# Altium integrated library ZMDI AS Interface.IntLib: 17 symbols
Pins are listed as number, name and electrical type; pins without a type are passive.

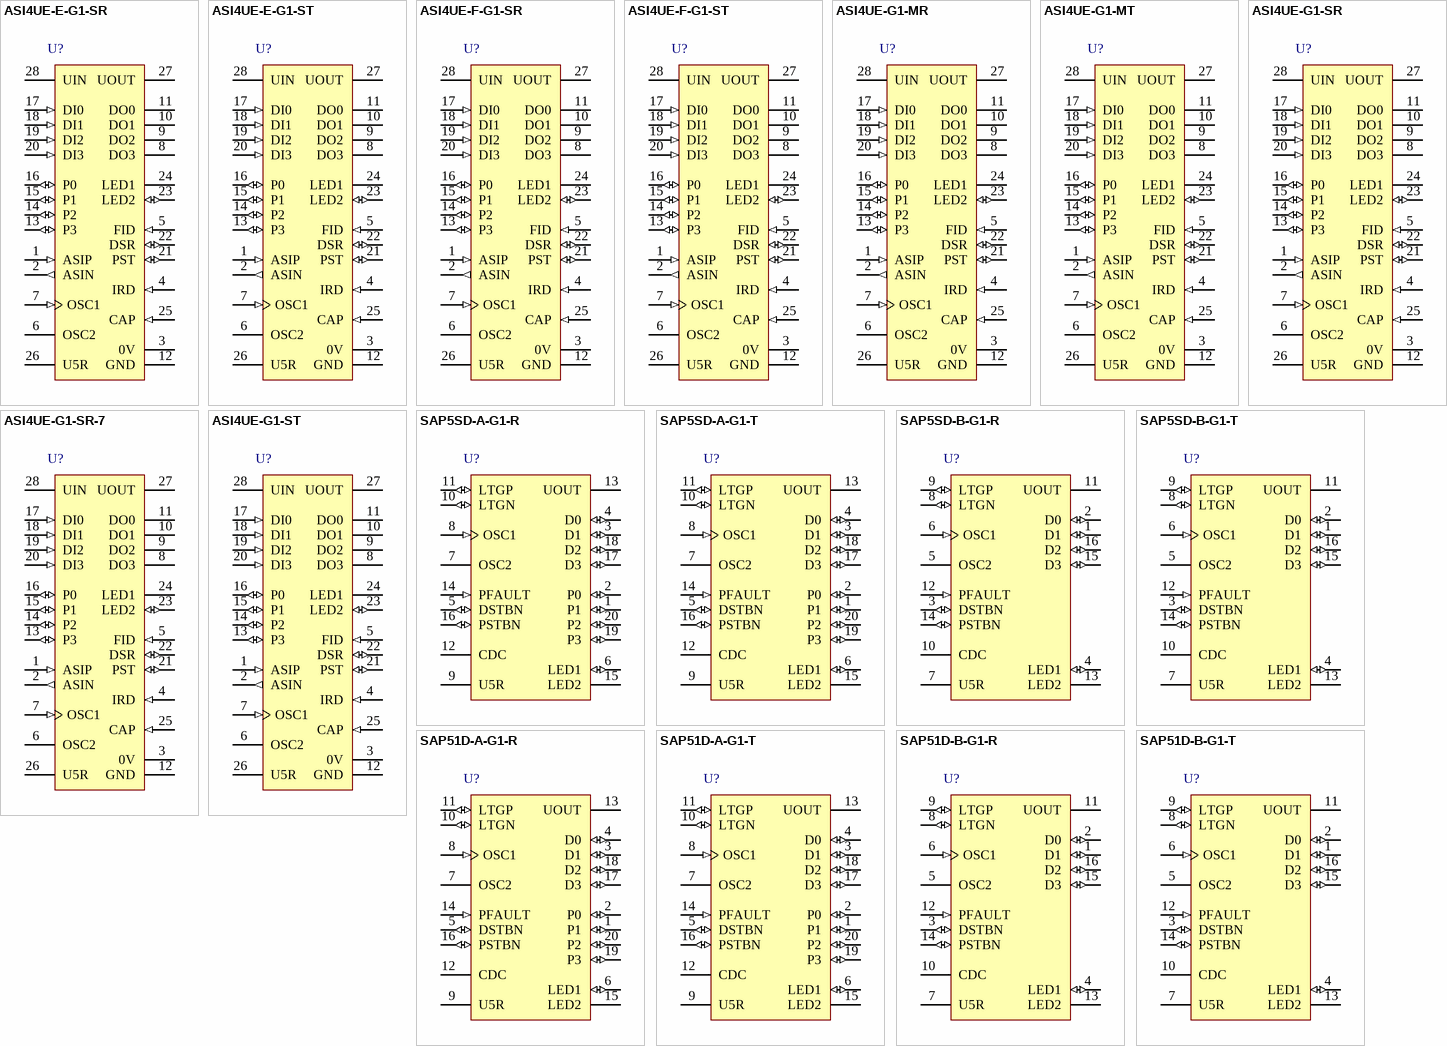
[diagram p0: symbols ASI4UE-E-G1-SR to SAP51D-B-G1-T]

## ASI4UE-E-G1-SR
designator U?
Spec. 3.0 Compliant Universal AS-I IC, 4 Inputs, 4 Outputs, -25 to 105 degC, 28-Pin SOP, Tape & Reel, RoHS; Manufacturer: ZMDI; PartNumber: ASI4UE-E-G1-SR; Number of Inputs: 4; DatasheetVersion: Rev. 2.2; PackageReference: SOP28; PackageDescription: 28-Pin Plastic Small Outline, 17.9 x 7.5 mm Body, 1.27 mm Pitch; Supplier 1: Mouser; Supplier Part Number 1: 964-ASI4UE-E-G1-SR; HyperLink: Standard; Number of Outputs: 4; Packing: Tape & Reel; RoHS: TRUE; Mounting Technology: Surface Mount; ComponentLink1Description: Manufacturer URL; ComponentLink1URL: http://www.zmdi.com/; ComponentLink2Description: Datasheet; ComponentLink2URL: http://www.zmdi.com/sites/default/files/ASI4U_Data_Sheet_Rev_2_2.pdf; ComponentLink3Description: Package Specification; ComponentLink3URL: http://www.zmdi.com/sites/default/files/ASI4U_Data_Sheet_Rev_2_2.pdf
footprint ZMDI-SOP28_N (28-Leads, Body 18.1x7.6mm, Pitch 1.27mm, IPC Medium Density)
footprint ZMDI-SOP28_L (28-Leads, Body 18.1x7.6mm, Pitch 1.27mm, IPC High Density)
footprint ZMDI-SOP28_M (28-Leads, Body 18.1x7.6mm, Pitch 1.27mm, IPC Low Density)
pins: 1 ASIP (in) "AS-i Transmitter/Receiver input, to be connected to ASI+ lead of AS-i cable, via reverse polarity protection diode", 2 ASIN (out) "AS-i Transmitter/Receiver output, to be connected to ASI- lead of AS-i cable", 3 0V (power) "IC Ground Common ground for all IC ports except ASIP/ASIN, To be connected to ASIN if no external coils are used", 4 IRD (in) "Addressing Channel input", 5 FID (in) "Periphery Fault input", 6 OSC2 "Crystal oscillator", 7 OSC1 (in) "Crystal oscillator / External clock input", 8 DO3 (hiz) "Data port output D3", 9 DO2 (hiz) "Data port output D2", 10 DO1 (hiz) "Data port output D1", 11 DO0 (hiz) "Data port output D0", 12 GND (power) "Digital I/O ground, to be connected with 0V", 13 P3 (io) "Parameter port P3", 14 P2 (io) "Parameter port P2 / Receive Strobe output in Master Mode", 15 P1 (io) "Parameter port P1 / Power Fail output in Master Mode", 16 P0 (io) "Parameter port P0 / Data Clock output in Master Mode", 17 DI0 (in) "Data port input D0", 18 DI1 (in) "Data port input D1", 19 DI2 (in) "Data port input D2", 20 DI3 (in) "Data port input D3", 21 PST (io) "Parameter Strobe output (input function used for IC test purposes only)", 22 DSR (io) "Data Strobe output / Reset input", 23 LED2 (io) "LED output "AS-i-Diagnosis" / Addressing channel output (input function used for IC test purposes only)", 24 LED1 (oc) "LED output "Enhanced Diagnosis", to be activated by LED2_Active bit in the Firmware region of the E2PROM", 25 CAP (in) "Filter control (Electronic Inductor)", 26 U5R (power) "Regulated internal/external 5V supply", 27 UOUT (power) "Decoupled Actuator/Sensor supply", 28 UIN (power) "Power supply input"

## ASI4UE-E-G1-ST
designator U?
Spec. 3.0 Compliant Universal AS-I IC, 4 Inputs, 4 Outputs, -25 to 105 degC, 28-Pin SOP, Tube, RoHS; Manufacturer: ZMDI; PartNumber: ASI4UE-E-G1-ST; Number of Inputs: 4; DatasheetVersion: Rev. 2.2; PackageReference: SOP28; PackageDescription: 28-Pin Plastic Small Outline, 17.9 x 7.5 mm Body, 1.27 mm Pitch; Supplier 1: Mouser; Supplier Part Number 1: 964-ASI4UE-E-G1-ST; HyperLink: Standard; Number of Outputs: 4; Packing: Tube; RoHS: TRUE; Mounting Technology: Surface Mount; ComponentLink1Description: Manufacturer URL; ComponentLink1URL: http://www.zmdi.com/; ComponentLink2Description: Datasheet; ComponentLink2URL: http://www.zmdi.com/sites/default/files/ASI4U_Data_Sheet_Rev_2_2.pdf; ComponentLink3Description: Package Specification; ComponentLink3URL: http://www.zmdi.com/sites/default/files/ASI4U_Data_Sheet_Rev_2_2.pdf
footprint ZMDI-SOP28_N (28-Leads, Body 18.1x7.6mm, Pitch 1.27mm, IPC Medium Density)
footprint ZMDI-SOP28_L (28-Leads, Body 18.1x7.6mm, Pitch 1.27mm, IPC High Density)
footprint ZMDI-SOP28_M (28-Leads, Body 18.1x7.6mm, Pitch 1.27mm, IPC Low Density)
pins: 1 ASIP (in) "AS-i Transmitter/Receiver input, to be connected to ASI+ lead of AS-i cable, via reverse polarity protection diode", 2 ASIN (out) "AS-i Transmitter/Receiver output, to be connected to ASI- lead of AS-i cable", 3 0V (power) "IC Ground Common ground for all IC ports except ASIP/ASIN, To be connected to ASIN if no external coils are used", 4 IRD (in) "Addressing Channel input", 5 FID (in) "Periphery Fault input", 6 OSC2 "Crystal oscillator", 7 OSC1 (in) "Crystal oscillator / External clock input", 8 DO3 (hiz) "Data port output D3", 9 DO2 (hiz) "Data port output D2", 10 DO1 (hiz) "Data port output D1", 11 DO0 (hiz) "Data port output D0", 12 GND (power) "Digital I/O ground, to be connected with 0V", 13 P3 (io) "Parameter port P3", 14 P2 (io) "Parameter port P2 / Receive Strobe output in Master Mode", 15 P1 (io) "Parameter port P1 / Power Fail output in Master Mode", 16 P0 (io) "Parameter port P0 / Data Clock output in Master Mode", 17 DI0 (in) "Data port input D0", 18 DI1 (in) "Data port input D1", 19 DI2 (in) "Data port input D2", 20 DI3 (in) "Data port input D3", 21 PST (io) "Parameter Strobe output (input function used for IC test purposes only)", 22 DSR (io) "Data Strobe output / Reset input", 23 LED2 (io) "LED output "AS-i-Diagnosis" / Addressing channel output (input function used for IC test purposes only)", 24 LED1 (oc) "LED output "Enhanced Diagnosis", to be activated by LED2_Active bit in the Firmware region of the E2PROM", 25 CAP (in) "Filter control (Electronic Inductor)", 26 U5R (power) "Regulated internal/external 5V supply", 27 UOUT (power) "Decoupled Actuator/Sensor supply", 28 UIN (power) "Power supply input"

## ASI4UE-F-G1-SR
designator U?
Spec. 3.0 Compliant Universal AS-I IC, 4 Inputs, 4 Outputs, -40 to 85 degC, 28-Pin SSOP, Tape & Reel, RoHS; Manufacturer: ZMDI; PartNumber: ASI4UE-F-G1-SR; Number of Inputs: 4; DatasheetVersion: Rev. 2.2; PackageReference: SSOP28; PackageDescription: 28-Pin Shrink Small Outline Package, 10.2 x 5.3 mm Body, 0.65 mm Pitch; Supplier 1: Mouser; Supplier Part Number 1: 964-ASI4UE-F-G1-SR; HyperLink: Standard; Number of Outputs: 4; Packing: Tape & Reel; RoHS: TRUE; Mounting Technology: Surface Mount; ComponentLink1Description: Manufacturer URL; ComponentLink1URL: http://www.zmdi.com/; ComponentLink2Description: Datasheet; ComponentLink2URL: http://www.zmdi.com/sites/default/files/ASI4U_Data_Sheet_Rev_2_2.pdf; ComponentLink3Description: Package Specification; ComponentLink3URL: http://www.zmdi.com/sites/default/files/ASI4U_Data_Sheet_Rev_2_2.pdf
footprint ZMDI-SSOP28_N (SOP, 28-Leads, Body 10.3x5.4mm, Pitch 0.65mm, IPC Medium Density)
footprint ZMDI-SSOP28_L (SOP, 28-Leads, Body 10.3x5.4mm, Pitch 0.65mm, IPC High Density)
footprint ZMDI-SSOP28_M (SOP, 28-Leads, Body 10.3x5.4mm, Pitch 0.65mm, IPC Low Density)
pins: 1 ASIP (in) "AS-i Transmitter/Receiver input, to be connected to ASI+ lead of AS-i cable, via reverse polarity protection diode", 2 ASIN (out) "AS-i Transmitter/Receiver output, to be connected to ASI- lead of AS-i cable", 3 0V (power) "IC Ground Common ground for all IC ports except ASIP/ASIN, To be connected to ASIN if no external coils are used", 4 IRD (in) "Addressing Channel input", 5 FID (in) "Periphery Fault input", 6 OSC2 "Crystal oscillator", 7 OSC1 (in) "Crystal oscillator / External clock input", 8 DO3 (hiz) "Data port output D3", 9 DO2 (hiz) "Data port output D2", 10 DO1 (hiz) "Data port output D1", 11 DO0 (hiz) "Data port output D0", 12 GND (power) "Digital I/O ground, to be connected with 0V", 13 P3 (io) "Parameter port P3", 14 P2 (io) "Parameter port P2 / Receive Strobe output in Master Mode", 15 P1 (io) "Parameter port P1 / Power Fail output in Master Mode", 16 P0 (io) "Parameter port P0 / Data Clock output in Master Mode", 17 DI0 (in) "Data port input D0", 18 DI1 (in) "Data port input D1", 19 DI2 (in) "Data port input D2", 20 DI3 (in) "Data port input D3", 21 PST (io) "Parameter Strobe output (input function used for IC test purposes only)", 22 DSR (io) "Data Strobe output / Reset input", 23 LED2 (io) "LED output "AS-i-Diagnosis" / Addressing channel output (input function used for IC test purposes only)", 24 LED1 (oc) "LED output "Enhanced Diagnosis", to be activated by LED2_Active bit in the Firmware region of the E2PROM", 25 CAP (in) "Filter control (Electronic Inductor)", 26 U5R (power) "Regulated internal/external 5V supply", 27 UOUT (power) "Decoupled Actuator/Sensor supply", 28 UIN (power) "Power supply input"

## ASI4UE-F-G1-ST
designator U?
Spec. 3.0 Compliant Universal AS-I IC, 4 Inputs, 4 Outputs, -40 to 85 degC, 28-Pin SSOP, Tube, RoHS; Manufacturer: ZMDI; PartNumber: ASI4UE-F-G1-ST; Number of Inputs: 4; DatasheetVersion: Rev. 2.2; PackageReference: SSOP28; PackageDescription: 28-Pin Shrink Small Outline Package, 10.2 x 5.3 mm Body, 0.65 mm Pitch; Supplier 1: Mouser; Supplier Part Number 1: 964-ASI4UE-F-G1-ST; HyperLink: Standard; Number of Outputs: 4; Packing: Tube; RoHS: TRUE; Mounting Technology: Surface Mount; ComponentLink1Description: Manufacturer URL; ComponentLink1URL: http://www.zmdi.com/; ComponentLink2Description: Datasheet; ComponentLink2URL: http://www.zmdi.com/sites/default/files/ASI4U_Data_Sheet_Rev_2_2.pdf; ComponentLink3Description: Package Specification; ComponentLink3URL: http://www.zmdi.com/sites/default/files/ASI4U_Data_Sheet_Rev_2_2.pdf
footprint ZMDI-SSOP28_N (SOP, 28-Leads, Body 10.3x5.4mm, Pitch 0.65mm, IPC Medium Density)
footprint ZMDI-SSOP28_L (SOP, 28-Leads, Body 10.3x5.4mm, Pitch 0.65mm, IPC High Density)
footprint ZMDI-SSOP28_M (SOP, 28-Leads, Body 10.3x5.4mm, Pitch 0.65mm, IPC Low Density)
pins: 1 ASIP (in) "AS-i Transmitter/Receiver input, to be connected to ASI+ lead of AS-i cable, via reverse polarity protection diode", 2 ASIN (out) "AS-i Transmitter/Receiver output, to be connected to ASI- lead of AS-i cable", 3 0V (power) "IC Ground Common ground for all IC ports except ASIP/ASIN, To be connected to ASIN if no external coils are used", 4 IRD (in) "Addressing Channel input", 5 FID (in) "Periphery Fault input", 6 OSC2 "Crystal oscillator", 7 OSC1 (in) "Crystal oscillator / External clock input", 8 DO3 (hiz) "Data port output D3", 9 DO2 (hiz) "Data port output D2", 10 DO1 (hiz) "Data port output D1", 11 DO0 (hiz) "Data port output D0", 12 GND (power) "Digital I/O ground, to be connected with 0V", 13 P3 (io) "Parameter port P3", 14 P2 (io) "Parameter port P2 / Receive Strobe output in Master Mode", 15 P1 (io) "Parameter port P1 / Power Fail output in Master Mode", 16 P0 (io) "Parameter port P0 / Data Clock output in Master Mode", 17 DI0 (in) "Data port input D0", 18 DI1 (in) "Data port input D1", 19 DI2 (in) "Data port input D2", 20 DI3 (in) "Data port input D3", 21 PST (io) "Parameter Strobe output (input function used for IC test purposes only)", 22 DSR (io) "Data Strobe output / Reset input", 23 LED2 (io) "LED output "AS-i-Diagnosis" / Addressing channel output (input function used for IC test purposes only)", 24 LED1 (oc) "LED output "Enhanced Diagnosis", to be activated by LED2_Active bit in the Firmware region of the E2PROM", 25 CAP (in) "Filter control (Electronic Inductor)", 26 U5R (power) "Regulated internal/external 5V supply", 27 UOUT (power) "Decoupled Actuator/Sensor supply", 28 UIN (power) "Power supply input"

## ASI4UE-G1-MR
designator U?
Spec. 3.0 Compliant Universal AS-I IC, 4 Inputs, 4 Outputs, -25 to 85 degC, 28-Pin SSOP, Tape & Reel, RoHS; Manufacturer: ZMDI; PartNumber: ASI4UE-G1-MR; Number of Inputs: 4; DatasheetVersion: Rev. 2.2; PackageReference: SSOP28; PackageDescription: 28-Pin Shrink Small Outline Package, 10.2 x 5.3 mm Body, 0.65 mm Pitch; Supplier 1: Mouser; Supplier Part Number 1: 964-ASI4UE-G1-MR; HyperLink: Master; Number of Outputs: 4; Packing: Tape & Reel; RoHS: TRUE; Mounting Technology: Surface Mount; ComponentLink1Description: Manufacturer URL; ComponentLink1URL: http://www.zmdi.com/; ComponentLink2Description: Datasheet; ComponentLink2URL: http://www.zmdi.com/sites/default/files/ASI4U_Data_Sheet_Rev_2_2.pdf; ComponentLink3Description: Package Specification; ComponentLink3URL: http://www.zmdi.com/sites/default/files/ASI4U_Data_Sheet_Rev_2_2.pdf
footprint ZMDI-SSOP28_N (SOP, 28-Leads, Body 10.3x5.4mm, Pitch 0.65mm, IPC Medium Density)
footprint ZMDI-SSOP28_L (SOP, 28-Leads, Body 10.3x5.4mm, Pitch 0.65mm, IPC High Density)
footprint ZMDI-SSOP28_M (SOP, 28-Leads, Body 10.3x5.4mm, Pitch 0.65mm, IPC Low Density)
pins: 1 ASIP (in) "AS-i Transmitter/Receiver input, to be connected to ASI+ lead of AS-i cable, via reverse polarity protection diode", 2 ASIN (out) "AS-i Transmitter/Receiver output, to be connected to ASI- lead of AS-i cable", 3 0V (power) "IC Ground Common ground for all IC ports except ASIP/ASIN, To be connected to ASIN if no external coils are used", 4 IRD (in) "Addressing Channel input", 5 FID (in) "Periphery Fault input", 6 OSC2 "Crystal oscillator", 7 OSC1 (in) "Crystal oscillator / External clock input", 8 DO3 (hiz) "Data port output D3", 9 DO2 (hiz) "Data port output D2", 10 DO1 (hiz) "Data port output D1", 11 DO0 (hiz) "Data port output D0", 12 GND (power) "Digital I/O ground, to be connected with 0V", 13 P3 (io) "Parameter port P3", 14 P2 (io) "Parameter port P2 / Receive Strobe output in Master Mode", 15 P1 (io) "Parameter port P1 / Power Fail output in Master Mode", 16 P0 (io) "Parameter port P0 / Data Clock output in Master Mode", 17 DI0 (in) "Data port input D0", 18 DI1 (in) "Data port input D1", 19 DI2 (in) "Data port input D2", 20 DI3 (in) "Data port input D3", 21 PST (io) "Parameter Strobe output (input function used for IC test purposes only)", 22 DSR (io) "Data Strobe output / Reset input", 23 LED2 (io) "LED output "AS-i-Diagnosis" / Addressing channel output (input function used for IC test purposes only)", 24 LED1 (oc) "LED output "Enhanced Diagnosis", to be activated by LED2_Active bit in the Firmware region of the E2PROM", 25 CAP (in) "Filter control (Electronic Inductor)", 26 U5R (power) "Regulated internal/external 5V supply", 27 UOUT (power) "Decoupled Actuator/Sensor supply", 28 UIN (power) "Power supply input"

## ASI4UE-G1-MT
designator U?
Spec. 3.0 Compliant Universal AS-I IC, 4 Inputs, 4 Outputs, -25 to 85 degC, 28-Pin SSOP, Tube, RoHS; Manufacturer: ZMDI; PartNumber: ASI4UE-G1-MT; Number of Inputs: 4; DatasheetVersion: Rev. 2.2; PackageReference: SSOP28; PackageDescription: 28-Pin Shrink Small Outline Package, 10.2 x 5.3 mm Body, 0.65 mm Pitch; Supplier 1: Mouser; Supplier Part Number 1: 964-ASI4UE-G1-MT; HyperLink: Master; Number of Outputs: 4; Packing: Tube; RoHS: TRUE; Mounting Technology: Surface Mount; ComponentLink1Description: Manufacturer URL; ComponentLink1URL: http://www.zmdi.com/; ComponentLink2Description: Datasheet; ComponentLink2URL: http://www.zmdi.com/sites/default/files/ASI4U_Data_Sheet_Rev_2_2.pdf; ComponentLink3Description: Package Specification; ComponentLink3URL: http://www.zmdi.com/sites/default/files/ASI4U_Data_Sheet_Rev_2_2.pdf
footprint ZMDI-SSOP28_N (SOP, 28-Leads, Body 10.3x5.4mm, Pitch 0.65mm, IPC Medium Density)
footprint ZMDI-SSOP28_L (SOP, 28-Leads, Body 10.3x5.4mm, Pitch 0.65mm, IPC High Density)
footprint ZMDI-SSOP28_M (SOP, 28-Leads, Body 10.3x5.4mm, Pitch 0.65mm, IPC Low Density)
pins: 1 ASIP (in) "AS-i Transmitter/Receiver input, to be connected to ASI+ lead of AS-i cable, via reverse polarity protection diode", 2 ASIN (out) "AS-i Transmitter/Receiver output, to be connected to ASI- lead of AS-i cable", 3 0V (power) "IC Ground Common ground for all IC ports except ASIP/ASIN, To be connected to ASIN if no external coils are used", 4 IRD (in) "Addressing Channel input", 5 FID (in) "Periphery Fault input", 6 OSC2 "Crystal oscillator", 7 OSC1 (in) "Crystal oscillator / External clock input", 8 DO3 (hiz) "Data port output D3", 9 DO2 (hiz) "Data port output D2", 10 DO1 (hiz) "Data port output D1", 11 DO0 (hiz) "Data port output D0", 12 GND (power) "Digital I/O ground, to be connected with 0V", 13 P3 (io) "Parameter port P3", 14 P2 (io) "Parameter port P2 / Receive Strobe output in Master Mode", 15 P1 (io) "Parameter port P1 / Power Fail output in Master Mode", 16 P0 (io) "Parameter port P0 / Data Clock output in Master Mode", 17 DI0 (in) "Data port input D0", 18 DI1 (in) "Data port input D1", 19 DI2 (in) "Data port input D2", 20 DI3 (in) "Data port input D3", 21 PST (io) "Parameter Strobe output (input function used for IC test purposes only)", 22 DSR (io) "Data Strobe output / Reset input", 23 LED2 (io) "LED output "AS-i-Diagnosis" / Addressing channel output (input function used for IC test purposes only)", 24 LED1 (oc) "LED output "Enhanced Diagnosis", to be activated by LED2_Active bit in the Firmware region of the E2PROM", 25 CAP (in) "Filter control (Electronic Inductor)", 26 U5R (power) "Regulated internal/external 5V supply", 27 UOUT (power) "Decoupled Actuator/Sensor supply", 28 UIN (power) "Power supply input"

## ASI4UE-G1-SR
designator U?
Spec. 3.0 Compliant Universal AS-I IC, 4 Inputs, 4 Outputs, -25 to 85 degC, 28-Pin SSOP, Tape & Reel, RoHS; Manufacturer: ZMDI; PartNumber: ASI4UE-G1-SR; Number of Inputs: 4; DatasheetVersion: Rev. 2.2; PackageReference: SSOP28; PackageDescription: 28-Pin Shrink Small Outline Package, 10.2 x 5.3 mm Body, 0.65 mm Pitch; Supplier 1: Mouser; Supplier Part Number 1: 964-ASI4UE-G1-SR; HyperLink: Standard; Number of Outputs: 4; Packing: Tape & Reel; RoHS: TRUE; Mounting Technology: Surface Mount; ComponentLink1Description: Manufacturer URL; ComponentLink1URL: http://www.zmdi.com/; ComponentLink2Description: Datasheet; ComponentLink2URL: http://www.zmdi.com/sites/default/files/ASI4U_Data_Sheet_Rev_2_2.pdf; ComponentLink3Description: Package Specification; ComponentLink3URL: http://www.zmdi.com/sites/default/files/ASI4U_Data_Sheet_Rev_2_2.pdf
footprint ZMDI-SSOP28_N (SOP, 28-Leads, Body 10.3x5.4mm, Pitch 0.65mm, IPC Medium Density)
footprint ZMDI-SSOP28_L (SOP, 28-Leads, Body 10.3x5.4mm, Pitch 0.65mm, IPC High Density)
footprint ZMDI-SSOP28_M (SOP, 28-Leads, Body 10.3x5.4mm, Pitch 0.65mm, IPC Low Density)
pins: 1 ASIP (in) "AS-i Transmitter/Receiver input, to be connected to ASI+ lead of AS-i cable, via reverse polarity protection diode", 2 ASIN (out) "AS-i Transmitter/Receiver output, to be connected to ASI- lead of AS-i cable", 3 0V (power) "IC Ground Common ground for all IC ports except ASIP/ASIN, To be connected to ASIN if no external coils are used", 4 IRD (in) "Addressing Channel input", 5 FID (in) "Periphery Fault input", 6 OSC2 "Crystal oscillator", 7 OSC1 (in) "Crystal oscillator / External clock input", 8 DO3 (hiz) "Data port output D3", 9 DO2 (hiz) "Data port output D2", 10 DO1 (hiz) "Data port output D1", 11 DO0 (hiz) "Data port output D0", 12 GND (power) "Digital I/O ground, to be connected with 0V", 13 P3 (io) "Parameter port P3", 14 P2 (io) "Parameter port P2 / Receive Strobe output in Master Mode", 15 P1 (io) "Parameter port P1 / Power Fail output in Master Mode", 16 P0 (io) "Parameter port P0 / Data Clock output in Master Mode", 17 DI0 (in) "Data port input D0", 18 DI1 (in) "Data port input D1", 19 DI2 (in) "Data port input D2", 20 DI3 (in) "Data port input D3", 21 PST (io) "Parameter Strobe output (input function used for IC test purposes only)", 22 DSR (io) "Data Strobe output / Reset input", 23 LED2 (io) "LED output "AS-i-Diagnosis" / Addressing channel output (input function used for IC test purposes only)", 24 LED1 (oc) "LED output "Enhanced Diagnosis", to be activated by LED2_Active bit in the Firmware region of the E2PROM", 25 CAP (in) "Filter control (Electronic Inductor)", 26 U5R (power) "Regulated internal/external 5V supply", 27 UOUT (power) "Decoupled Actuator/Sensor supply", 28 UIN (power) "Power supply input"

## ASI4UE-G1-SR-7
designator U?
Spec. 3.0 Compliant Universal AS-I IC, 4 Inputs, 4 Outputs, -25 to 85 degC, 28-Pin SSOP, Tape & Reel, RoHS; Manufacturer: ZMDI; PartNumber: ASI4UE-G1-SR-7; Number of Inputs: 4; DatasheetVersion: Rev. 2.2; PackageReference: SSOP28; PackageDescription: 28-Pin Shrink Small Outline Package, 10.2 x 5.3 mm Body, 0.65 mm Pitch; Supplier 1: Mouser; Supplier Part Number 1: 964-ASI4UE-G1-SR-7; HyperLink: Standard; Number of Outputs: 4; Packing: Tape & Reel; RoHS: TRUE; Mounting Technology: Surface Mount; ComponentLink1Description: Manufacturer URL; ComponentLink1URL: http://www.zmdi.com/; ComponentLink2Description: Datasheet; ComponentLink2URL: http://www.zmdi.com/sites/default/files/ASI4U_Data_Sheet_Rev_2_2.pdf; ComponentLink3Description: Package Specification; ComponentLink3URL: http://www.zmdi.com/sites/default/files/ASI4U_Data_Sheet_Rev_2_2.pdf
footprint ZMDI-SSOP28_N (SOP, 28-Leads, Body 10.3x5.4mm, Pitch 0.65mm, IPC Medium Density)
footprint ZMDI-SSOP28_L (SOP, 28-Leads, Body 10.3x5.4mm, Pitch 0.65mm, IPC High Density)
footprint ZMDI-SSOP28_M (SOP, 28-Leads, Body 10.3x5.4mm, Pitch 0.65mm, IPC Low Density)
pins: 1 ASIP (in) "AS-i Transmitter/Receiver input, to be connected to ASI+ lead of AS-i cable, via reverse polarity protection diode", 2 ASIN (out) "AS-i Transmitter/Receiver output, to be connected to ASI- lead of AS-i cable", 3 0V (power) "IC Ground Common ground for all IC ports except ASIP/ASIN, To be connected to ASIN if no external coils are used", 4 IRD (in) "Addressing Channel input", 5 FID (in) "Periphery Fault input", 6 OSC2 "Crystal oscillator", 7 OSC1 (in) "Crystal oscillator / External clock input", 8 DO3 (hiz) "Data port output D3", 9 DO2 (hiz) "Data port output D2", 10 DO1 (hiz) "Data port output D1", 11 DO0 (hiz) "Data port output D0", 12 GND (power) "Digital I/O ground, to be connected with 0V", 13 P3 (io) "Parameter port P3", 14 P2 (io) "Parameter port P2 / Receive Strobe output in Master Mode", 15 P1 (io) "Parameter port P1 / Power Fail output in Master Mode", 16 P0 (io) "Parameter port P0 / Data Clock output in Master Mode", 17 DI0 (in) "Data port input D0", 18 DI1 (in) "Data port input D1", 19 DI2 (in) "Data port input D2", 20 DI3 (in) "Data port input D3", 21 PST (io) "Parameter Strobe output (input function used for IC test purposes only)", 22 DSR (io) "Data Strobe output / Reset input", 23 LED2 (io) "LED output "AS-i-Diagnosis" / Addressing channel output (input function used for IC test purposes only)", 24 LED1 (oc) "LED output "Enhanced Diagnosis", to be activated by LED2_Active bit in the Firmware region of the E2PROM", 25 CAP (in) "Filter control (Electronic Inductor)", 26 U5R (power) "Regulated internal/external 5V supply", 27 UOUT (power) "Decoupled Actuator/Sensor supply", 28 UIN (power) "Power supply input"

## ASI4UE-G1-ST
designator U?
Spec. 3.0 Compliant Universal AS-I IC, 4 Inputs, 4 Outputs, -25 to 85 degC, 28-Pin SSOP, Tube, RoHS; Manufacturer: ZMDI; PartNumber: ASI4UE-G1-ST; Number of Inputs: 4; DatasheetVersion: Rev. 2.2; PackageReference: SSOP28; PackageDescription: 28-Pin Shrink Small Outline Package, 10.2 x 5.3 mm Body, 0.65 mm Pitch; Supplier 1: Mouser; Supplier Part Number 1: 964-ASI4UE-G1-ST; HyperLink: Standard; Number of Outputs: 4; Packing: Tube; RoHS: TRUE; Mounting Technology: Surface Mount; ComponentLink1Description: Manufacturer URL; ComponentLink1URL: http://www.zmdi.com/; ComponentLink2Description: Datasheet; ComponentLink2URL: http://www.zmdi.com/sites/default/files/ASI4U_Data_Sheet_Rev_2_2.pdf; ComponentLink3Description: Package Specification; ComponentLink3URL: http://www.zmdi.com/sites/default/files/ASI4U_Data_Sheet_Rev_2_2.pdf
footprint ZMDI-SSOP28_N (SOP, 28-Leads, Body 10.3x5.4mm, Pitch 0.65mm, IPC Medium Density)
footprint ZMDI-SSOP28_L (SOP, 28-Leads, Body 10.3x5.4mm, Pitch 0.65mm, IPC High Density)
footprint ZMDI-SSOP28_M (SOP, 28-Leads, Body 10.3x5.4mm, Pitch 0.65mm, IPC Low Density)
pins: 1 ASIP (in) "AS-i Transmitter/Receiver input, to be connected to ASI+ lead of AS-i cable, via reverse polarity protection diode", 2 ASIN (out) "AS-i Transmitter/Receiver output, to be connected to ASI- lead of AS-i cable", 3 0V (power) "IC Ground Common ground for all IC ports except ASIP/ASIN, To be connected to ASIN if no external coils are used", 4 IRD (in) "Addressing Channel input", 5 FID (in) "Periphery Fault input", 6 OSC2 "Crystal oscillator", 7 OSC1 (in) "Crystal oscillator / External clock input", 8 DO3 (hiz) "Data port output D3", 9 DO2 (hiz) "Data port output D2", 10 DO1 (hiz) "Data port output D1", 11 DO0 (hiz) "Data port output D0", 12 GND (power) "Digital I/O ground, to be connected with 0V", 13 P3 (io) "Parameter port P3", 14 P2 (io) "Parameter port P2 / Receive Strobe output in Master Mode", 15 P1 (io) "Parameter port P1 / Power Fail output in Master Mode", 16 P0 (io) "Parameter port P0 / Data Clock output in Master Mode", 17 DI0 (in) "Data port input D0", 18 DI1 (in) "Data port input D1", 19 DI2 (in) "Data port input D2", 20 DI3 (in) "Data port input D3", 21 PST (io) "Parameter Strobe output (input function used for IC test purposes only)", 22 DSR (io) "Data Strobe output / Reset input", 23 LED2 (io) "LED output "AS-i-Diagnosis" / Addressing channel output (input function used for IC test purposes only)", 24 LED1 (oc) "LED output "Enhanced Diagnosis", to be activated by LED2_Active bit in the Firmware region of the E2PROM", 25 CAP (in) "Filter control (Electronic Inductor)", 26 U5R (power) "Regulated internal/external 5V supply", 27 UOUT (power) "Decoupled Actuator/Sensor supply", 28 UIN (power) "Power supply input"

## SAP5SD-A-G1-R
designator U?
Universal Actuator-Sensor Interface IC, 4 Inputs, 4 Outputs, -25 to 85 degC, 20-Pin SOP, Tape & Reel, RoHS; Manufacturer: ZMDI; PartNumber: SAP5SD-A-G1-R; Number of Inputs: 4; DatasheetVersion: Rev. 3.1; PackageReference: SOP20; PackageDescription: 20-Pin Plastic Small Outline, 12.83 x 7.52 mm Body, 1.27 mm Pitch; Supplier 1: Mouser; Supplier Part Number 1: 964-SAP5SD-A-G1-R; Number of Outputs: 4; Packing: Tape & Reel; RoHS: TRUE; Mounting Technology: Surface Mount; ComponentLink1Description: Manufacturer URL; ComponentLink1URL: http://www.zmdi.com/; ComponentLink2Description: Datasheet; ComponentLink2URL: http://www.zmdi.com/sites/default/files/SAP5_Data_Sheet_Rev_3_1.pdf; ComponentLink3Description: Package Specification; ComponentLink3URL: http://www.zmdi.com/sites/default/files/SAP5_Data_Sheet_Rev_3_1.pdf
footprint ZMDI-SOP20_N (SOP, 20-Leads, Body 13x7.6mm, Pitch 1.27mm, IPC Medium Density)
footprint ZMDI-SOP20_L (SOP, 20-Leads, Body 13x7.6mm, Pitch 1.27mm, IPC High Density)
footprint ZMDI-SOP20_M (SOP, 20-Leads, Body 13x7.6mm, Pitch 1.27mm, IPC Low Density)
pins: 1 P1 (io) "Parameter port P1 / Datainput port 1 at IO-config = 7", 2 P0 (io) "Parameter port P0 / Datainput port 0 at IO-config = 7", 3 D1 (io) "Data port D1", 4 D0 (io) "Data port D0", 5 DSTBN (io) "Data Strobe output / Reset input", 6 LED1 (io) "LED 1 Status Indication", 7 OSC2 "Crystal oscillator", 8 OSC1 (in) "Crystal oscillator / External clock input", 9 U5R (power) "Regulated 5V power supply", 10 LTGN (io) "AS-i Transmitter/Receiver output, to be connected toAS-i-", 11 LTGP (io) "AS-i Transmitter/Receiver input, to be connected to AS-i+ via reverse polarity protection diode", 12 CDC "external buffer capacitor", 13 UOUT (power) "decoupled actuator/sensorpower supply", 14 PFAULT (in) "Periphery Fault input (LOW =Periphery Fault)", 15 LED2 (oc) "LED 2 status indication", 16 PSTBN (io) "Parameter Strobe output", 17 D3 (io) "Data port D3", 18 D2 (io) "Data port D2", 19 P3 (io) "Parameter port P3 / Datainput port 3 at IO-config = 7", 20 P2 (io) "Parameter port P2 / Datainput port 2 at IO-config = 7"

## SAP5SD-A-G1-T
designator U?
Universal Actuator-Sensor Interface IC, 4 Inputs, 4 Outputs, -25 to 85 degC, 20-Pin SOP, Tube, RoHS; Manufacturer: ZMDI; PartNumber: SAP5SD-A-G1-T; Number of Inputs: 4; DatasheetVersion: Rev. 3.1; PackageReference: SOP20; PackageDescription: 20-Pin Plastic Small Outline, 12.83 x 7.52 mm Body, 1.27 mm Pitch; Supplier 1: Mouser; Supplier Part Number 1: 964-SAP5SD-A-G1-T; Number of Outputs: 4; Packing: Tube; RoHS: TRUE; Mounting Technology: Surface Mount; ComponentLink1Description: Manufacturer URL; ComponentLink1URL: http://www.zmdi.com/; ComponentLink2Description: Datasheet; ComponentLink2URL: http://www.zmdi.com/sites/default/files/SAP5_Data_Sheet_Rev_3_1.pdf; ComponentLink3Description: Package Specification; ComponentLink3URL: http://www.zmdi.com/sites/default/files/SAP5_Data_Sheet_Rev_3_1.pdf
footprint ZMDI-SOP20_N (SOP, 20-Leads, Body 13x7.6mm, Pitch 1.27mm, IPC Medium Density)
footprint ZMDI-SOP20_L (SOP, 20-Leads, Body 13x7.6mm, Pitch 1.27mm, IPC High Density)
footprint ZMDI-SOP20_M (SOP, 20-Leads, Body 13x7.6mm, Pitch 1.27mm, IPC Low Density)
pins: 1 P1 (io) "Parameter port P1 / Datainput port 1 at IO-config = 7", 2 P0 (io) "Parameter port P0 / Datainput port 0 at IO-config = 7", 3 D1 (io) "Data port D1", 4 D0 (io) "Data port D0", 5 DSTBN (io) "Data Strobe output / Reset input", 6 LED1 (io) "LED 1 Status Indication", 7 OSC2 "Crystal oscillator", 8 OSC1 (in) "Crystal oscillator / External clock input", 9 U5R (power) "Regulated 5V power supply", 10 LTGN (io) "AS-i Transmitter/Receiver output, to be connected toAS-i-", 11 LTGP (io) "AS-i Transmitter/Receiver input, to be connected to AS-i+ via reverse polarity protection diode", 12 CDC "external buffer capacitor", 13 UOUT (power) "decoupled actuator/sensorpower supply", 14 PFAULT (in) "Periphery Fault input (LOW =Periphery Fault)", 15 LED2 (oc) "LED 2 status indication", 16 PSTBN (io) "Parameter Strobe output", 17 D3 (io) "Data port D3", 18 D2 (io) "Data port D2", 19 P3 (io) "Parameter port P3 / Datainput port 3 at IO-config = 7", 20 P2 (io) "Parameter port P2 / Datainput port 2 at IO-config = 7"

## SAP5SD-B-G1-R
designator U?
Universal Actuator-Sensor Interface IC, 4 Inputs, 4 Outputs, -25 to 85 degC, 16-Pin SOP, Tape & Reel, RoHS; Manufacturer: ZMDI; PartNumber: SAP5SD-B-G1-R; Number of Inputs: 4; DatasheetVersion: Rev. 3.1; PackageReference: SOP16; PackageDescription: 16-Pin Plastic Small Outline, 10.34 x 7.52 mm Body, 1.27 mm Pitch; Supplier 1: Mouser; Supplier Part Number 1: 964-SAP5SD-B-G1-R; Number of Outputs: 4; Packing: Tape & Reel; RoHS: TRUE; Mounting Technology: Surface Mount; ComponentLink1Description: Manufacturer URL; ComponentLink1URL: http://www.zmdi.com/; ComponentLink2Description: Datasheet; ComponentLink2URL: http://www.zmdi.com/sites/default/files/SAP5_Data_Sheet_Rev_3_1.pdf; ComponentLink3Description: Package Specification; ComponentLink3URL: http://www.zmdi.com/sites/default/files/SAP5_Data_Sheet_Rev_3_1.pdf
footprint ZMDI-SOP16_N (SOP, 16-Leads, Body 10.5x7.6mm, Pitch 1.27mm, IPC Medium Density)
footprint ZMDI-SOP16_L (SOP, 16-Leads, Body 10.5x7.6mm, Pitch 1.27mm, IPC High Density)
footprint ZMDI-SOP16_M (SOP, 16-Leads, Body 10.5x7.6mm, Pitch 1.27mm, IPC Low Density)
pins: 1 D1 (io) "Data port D1", 2 D0 (io) "Data port D0", 3 DSTBN (io) "Data Strobe output / Reset input", 4 LED1 (io) "LED 1 Status Indication", 5 OSC2 "Crystal oscillator", 6 OSC1 (in) "Crystal oscillator / Externalclock input", 7 U5R (power) "Regulated 5V power supply", 8 LTGN (io) "AS-i Transmitter/Receiveroutput, to be connected toAS-i-", 9 LTGP (io) "AS-i Transmitter/Receiver input, to be connected to AS-i+ via reverse polarityprotection diode", 10 CDC "external buffer capacitor", 11 UOUT (power) "decoupled actuator/sensorpower supply", 12 PFAULT (in) "Periphery Fault input (LOW =Periphery Fault)", 13 LED2 (oc) "LED 2 status indication", 14 PSTBN (io) "Parameter Strobe output", 15 D3 (io) "Data port D3", 16 D2 (io) "Data port D2"

## SAP5SD-B-G1-T
designator U?
Universal Actuator-Sensor Interface IC, 4 Inputs, 4 Outputs, -25 to 85 degC, 16-Pin SOP, Tube, RoHS; Manufacturer: ZMDI; PartNumber: SAP5SD-B-G1-T; Number of Inputs: 4; DatasheetVersion: Rev. 3.1; PackageReference: SOP16; PackageDescription: 16-Pin Plastic Small Outline, 10.34 x 7.52 mm Body, 1.27 mm Pitch; Supplier 1: Mouser; Supplier Part Number 1: 964-SAP5SD-B-G1-T; Number of Outputs: 4; Packing: Tube; RoHS: TRUE; Mounting Technology: Surface Mount; ComponentLink1Description: Manufacturer URL; ComponentLink1URL: http://www.zmdi.com/; ComponentLink2Description: Datasheet; ComponentLink2URL: http://www.zmdi.com/sites/default/files/SAP5_Data_Sheet_Rev_3_1.pdf; ComponentLink3Description: Package Specification; ComponentLink3URL: http://www.zmdi.com/sites/default/files/SAP5_Data_Sheet_Rev_3_1.pdf
footprint ZMDI-SOP16_N (SOP, 16-Leads, Body 10.5x7.6mm, Pitch 1.27mm, IPC Medium Density)
footprint ZMDI-SOP16_L (SOP, 16-Leads, Body 10.5x7.6mm, Pitch 1.27mm, IPC High Density)
footprint ZMDI-SOP16_M (SOP, 16-Leads, Body 10.5x7.6mm, Pitch 1.27mm, IPC Low Density)
pins: 1 D1 (io) "Data port D1", 2 D0 (io) "Data port D0", 3 DSTBN (io) "Data Strobe output / Reset input", 4 LED1 (io) "LED 1 Status Indication", 5 OSC2 "Crystal oscillator", 6 OSC1 (in) "Crystal oscillator / Externalclock input", 7 U5R (power) "Regulated 5V power supply", 8 LTGN (io) "AS-i Transmitter/Receiveroutput, to be connected toAS-i-", 9 LTGP (io) "AS-i Transmitter/Receiver input, to be connected to AS-i+ via reverse polarityprotection diode", 10 CDC "external buffer capacitor", 11 UOUT (power) "decoupled actuator/sensorpower supply", 12 PFAULT (in) "Periphery Fault input (LOW =Periphery Fault)", 13 LED2 (oc) "LED 2 status indication", 14 PSTBN (io) "Parameter Strobe output", 15 D3 (io) "Data port D3", 16 D2 (io) "Data port D2"

## SAP51D-A-G1-R
designator U?
Universal Actuator-Sensor Interface IC, 4 Inputs, 4 Outputs, -25 to 85 degC, 20-Pin SOP, Tape & Reel, RoHS; Manufacturer: ZMDI; PartNumber: SAP51D-A-G1-R; Number of Inputs: 4; DatasheetVersion: Rev. 3.1; PackageReference: SOP20; PackageDescription: 20-Pin Plastic Small Outline, 12.83 x 7.52 mm Body, 1.27 mm Pitch; Supplier 1: Mouser; Supplier Part Number 1: 964-SAP51D-A-G1-R; Number of Outputs: 4; Packing: Tape & Reel; RoHS: TRUE; Mounting Technology: Surface Mount; ComponentLink1Description: Manufacturer URL; ComponentLink1URL: http://www.zmdi.com/; ComponentLink2Description: Datasheet; ComponentLink2URL: http://www.zmdi.com/sites/default/files/SAP5_Data_Sheet_Rev_3_1.pdf; ComponentLink3Description: Package Specification; ComponentLink3URL: http://www.zmdi.com/sites/default/files/SAP5_Data_Sheet_Rev_3_1.pdf
footprint ZMDI-SOP20_N (SOP, 20-Leads, Body 13x7.6mm, Pitch 1.27mm, IPC Medium Density)
footprint ZMDI-SOP20_L (SOP, 20-Leads, Body 13x7.6mm, Pitch 1.27mm, IPC High Density)
footprint ZMDI-SOP20_M (SOP, 20-Leads, Body 13x7.6mm, Pitch 1.27mm, IPC Low Density)
pins: 1 P1 (io) "Parameter port P1 / Datainput port 1 at IO-config = 7", 2 P0 (io) "Parameter port P0 / Datainput port 0 at IO-config = 7", 3 D1 (io) "Data port D1", 4 D0 (io) "Data port D0", 5 DSTBN (io) "Data Strobe output / Reset input", 6 LED1 (io) "LED 1 Status Indication", 7 OSC2 "Crystal oscillator", 8 OSC1 (in) "Crystal oscillator / External clock input", 9 U5R (power) "Regulated 5V power supply", 10 LTGN (io) "AS-i Transmitter/Receiver output, to be connected toAS-i-", 11 LTGP (io) "AS-i Transmitter/Receiver input, to be connected to AS-i+ via reverse polarity protection diode", 12 CDC "external buffer capacitor", 13 UOUT (power) "decoupled actuator/sensorpower supply", 14 PFAULT (in) "Periphery Fault input (LOW =Periphery Fault)", 15 LED2 (oc) "LED 2 status indication", 16 PSTBN (io) "Parameter Strobe output", 17 D3 (io) "Data port D3", 18 D2 (io) "Data port D2", 19 P3 (io) "Parameter port P3 / Datainput port 3 at IO-config = 7", 20 P2 (io) "Parameter port P2 / Datainput port 2 at IO-config = 7"

## SAP51D-A-G1-T
designator U?
Universal Actuator-Sensor Interface IC, 4 Inputs, 4 Outputs, -25 to 85 degC, 20-Pin SOP, Tube, RoHS; Manufacturer: ZMDI; PartNumber: SAP51D-A-G1-T; Number of Inputs: 4; DatasheetVersion: Rev. 3.1; PackageReference: SOP20; PackageDescription: 20-Pin Plastic Small Outline, 12.83 x 7.52 mm Body, 1.27 mm Pitch; Supplier 1: Mouser; Supplier Part Number 1: 964-SAP51D-A-G1-T; Number of Outputs: 4; Packing: Tube; RoHS: TRUE; Mounting Technology: Surface Mount; ComponentLink1Description: Manufacturer URL; ComponentLink1URL: http://www.zmdi.com/; ComponentLink2Description: Datasheet; ComponentLink2URL: http://www.zmdi.com/sites/default/files/SAP5_Data_Sheet_Rev_3_1.pdf; ComponentLink3Description: Package Specification; ComponentLink3URL: http://www.zmdi.com/sites/default/files/SAP5_Data_Sheet_Rev_3_1.pdf
footprint ZMDI-SOP20_N (SOP, 20-Leads, Body 13x7.6mm, Pitch 1.27mm, IPC Medium Density)
footprint ZMDI-SOP20_L (SOP, 20-Leads, Body 13x7.6mm, Pitch 1.27mm, IPC High Density)
footprint ZMDI-SOP20_M (SOP, 20-Leads, Body 13x7.6mm, Pitch 1.27mm, IPC Low Density)
pins: 1 P1 (io) "Parameter port P1 / Datainput port 1 at IO-config = 7", 2 P0 (io) "Parameter port P0 / Datainput port 0 at IO-config = 7", 3 D1 (io) "Data port D1", 4 D0 (io) "Data port D0", 5 DSTBN (io) "Data Strobe output / Reset input", 6 LED1 (io) "LED 1 Status Indication", 7 OSC2 "Crystal oscillator", 8 OSC1 (in) "Crystal oscillator / External clock input", 9 U5R (power) "Regulated 5V power supply", 10 LTGN (io) "AS-i Transmitter/Receiver output, to be connected toAS-i-", 11 LTGP (io) "AS-i Transmitter/Receiver input, to be connected to AS-i+ via reverse polarity protection diode", 12 CDC "external buffer capacitor", 13 UOUT (power) "decoupled actuator/sensorpower supply", 14 PFAULT (in) "Periphery Fault input (LOW =Periphery Fault)", 15 LED2 (oc) "LED 2 status indication", 16 PSTBN (io) "Parameter Strobe output", 17 D3 (io) "Data port D3", 18 D2 (io) "Data port D2", 19 P3 (io) "Parameter port P3 / Datainput port 3 at IO-config = 7", 20 P2 (io) "Parameter port P2 / Datainput port 2 at IO-config = 7"

## SAP51D-B-G1-R
designator U?
Universal Actuator-Sensor Interface IC, 4 Inputs, 4 Outputs, -25 to 85 degC, 16-Pin SOP, Tape & Reel, RoHS; Manufacturer: ZMDI; PartNumber: SAP51D-B-G1-R; Number of Inputs: 4; DatasheetVersion: Rev. 3.1; PackageReference: SOP16; PackageDescription: 16-Pin Plastic Small Outline, 10.34 x 7.52 mm Body, 1.27 mm Pitch; Supplier 1: Mouser; Supplier Part Number 1: 964-SAP51D-B-G1-R; Number of Outputs: 4; Packing: Tape & Reel; RoHS: TRUE; Mounting Technology: Surface Mount; ComponentLink1Description: Manufacturer URL; ComponentLink1URL: http://www.zmdi.com/; ComponentLink2Description: Datasheet; ComponentLink2URL: http://www.zmdi.com/sites/default/files/SAP5_Data_Sheet_Rev_3_1.pdf; ComponentLink3Description: Package Specification; ComponentLink3URL: http://www.zmdi.com/sites/default/files/SAP5_Data_Sheet_Rev_3_1.pdf
footprint ZMDI-SOP16_N (SOP, 16-Leads, Body 10.5x7.6mm, Pitch 1.27mm, IPC Medium Density)
footprint ZMDI-SOP16_L (SOP, 16-Leads, Body 10.5x7.6mm, Pitch 1.27mm, IPC High Density)
footprint ZMDI-SOP16_M (SOP, 16-Leads, Body 10.5x7.6mm, Pitch 1.27mm, IPC Low Density)
pins: 1 D1 (io) "Data port D1", 2 D0 (io) "Data port D0", 3 DSTBN (io) "Data Strobe output / Reset input", 4 LED1 (io) "LED 1 Status Indication", 5 OSC2 "Crystal oscillator", 6 OSC1 (in) "Crystal oscillator / Externalclock input", 7 U5R (power) "Regulated 5V power supply", 8 LTGN (io) "AS-i Transmitter/Receiveroutput, to be connected toAS-i-", 9 LTGP (io) "AS-i Transmitter/Receiver input, to be connected to AS-i+ via reverse polarityprotection diode", 10 CDC "external buffer capacitor", 11 UOUT (power) "decoupled actuator/sensorpower supply", 12 PFAULT (in) "Periphery Fault input (LOW =Periphery Fault)", 13 LED2 (oc) "LED 2 status indication", 14 PSTBN (io) "Parameter Strobe output", 15 D3 (io) "Data port D3", 16 D2 (io) "Data port D2"

## SAP51D-B-G1-T
designator U?
Universal Actuator-Sensor Interface IC, 4 Inputs, 4 Outputs, -25 to 85 degC, 16-Pin SOP, Tube, RoHS; Manufacturer: ZMDI; PartNumber: SAP51D-B-G1-T; Number of Inputs: 4; DatasheetVersion: Rev. 3.1; PackageReference: SOP16; PackageDescription: 16-Pin Plastic Small Outline, 10.34 x 7.52 mm Body, 1.27 mm Pitch; Supplier 1: Mouser; Supplier Part Number 1: 964-SAP51D-B-G1-T; Number of Outputs: 4; Packing: Tube; RoHS: TRUE; Mounting Technology: Surface Mount; ComponentLink1Description: Manufacturer URL; ComponentLink1URL: http://www.zmdi.com/; ComponentLink2Description: Datasheet; ComponentLink2URL: http://www.zmdi.com/sites/default/files/SAP5_Data_Sheet_Rev_3_1.pdf; ComponentLink3Description: Package Specification; ComponentLink3URL: http://www.zmdi.com/sites/default/files/SAP5_Data_Sheet_Rev_3_1.pdf
footprint ZMDI-SOP16_N (SOP, 16-Leads, Body 10.5x7.6mm, Pitch 1.27mm, IPC Medium Density)
footprint ZMDI-SOP16_L (SOP, 16-Leads, Body 10.5x7.6mm, Pitch 1.27mm, IPC High Density)
footprint ZMDI-SOP16_M (SOP, 16-Leads, Body 10.5x7.6mm, Pitch 1.27mm, IPC Low Density)
pins: 1 D1 (io) "Data port D1", 2 D0 (io) "Data port D0", 3 DSTBN (io) "Data Strobe output / Reset input", 4 LED1 (io) "LED 1 Status Indication", 5 OSC2 "Crystal oscillator", 6 OSC1 (in) "Crystal oscillator / Externalclock input", 7 U5R (power) "Regulated 5V power supply", 8 LTGN (io) "AS-i Transmitter/Receiveroutput, to be connected toAS-i-", 9 LTGP (io) "AS-i Transmitter/Receiver input, to be connected to AS-i+ via reverse polarityprotection diode", 10 CDC "external buffer capacitor", 11 UOUT (power) "decoupled actuator/sensorpower supply", 12 PFAULT (in) "Periphery Fault input (LOW =Periphery Fault)", 13 LED2 (oc) "LED 2 status indication", 14 PSTBN (io) "Parameter Strobe output", 15 D3 (io) "Data port D3", 16 D2 (io) "Data port D2"